# Altium footprint library Relay.PcbLib: 2 footprints
Each footprint in its own frame and in the unit in brackets; x right, y up, seen from the top. Pads: shape width x height; smd on the part's side, far side on the other; paste and mask are expansions set on the pad; w line width, h text height; cw(c..) or ccw(c..) is an arc to the next point about the centre after c.
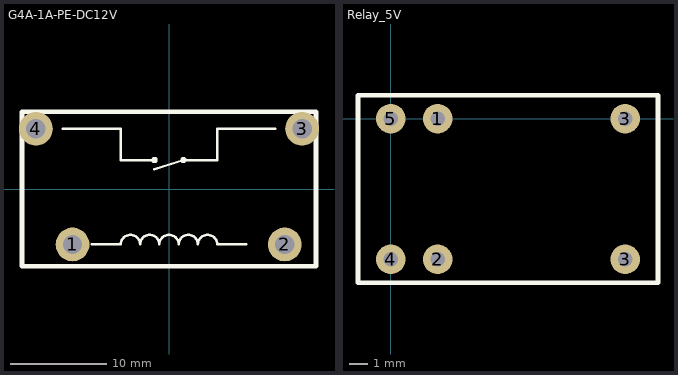
[diagram p0: the footprints below, top view; thin cyan lines are the x and y axes]

## G4A-1A-PE-DC12V [mm]
pads (4):
  round 3.5 hole 2: 1(-10,-5.75) 2(12,-5.75) 3(13.8,6.25) 4(-13.8,6.25)
Top Overlay:
  circle w0.254: c-1.5,3 r0.2
  circle w0.254: c1.5,3 r0.2
  lines w0.254: -11,6.25 -5,6.25 -5,3 -1.5,3 ; -8,-5.75 -5,-5.75 cw(c-4,-5.75) -3,-5.75 cw(c-2,-5.75) -1,-5.75 cw(c0,-5.75) 1,-5.75 cw(c2,-5.75) 3,-5.75 cw(c4,-5.75) 5,-5.75 8,-5.75 ; -1.524,2.032 1.5,3 5,3 5,6.25 11,6.25
  lines w0.5: -15.25,-8 -15.25,8 15.25,8 15.25,-8 -15.25,-8
3D body: height 33.5, standoff -3.5, extent -15.315,-7.908 15.185,8.092

## Relay_5V [mm]
pads (6):
  round 1.6 hole 0.8: 1(2.54,0) 2(2.54,-7.62) 3(12.7,-7.62) 3(12.7,0) 4(0,-7.62) 5(0,0)
Top Overlay:
  lines w0.254: -1.778,-8.89 14.478,-8.89 14.478,1.27 -1.778,1.27 -1.778,-8.89